# Altium integrated library con-jack.IntLib: 4 symbols
Pins are listed as number, name and electrical type; pins without a type are passive.

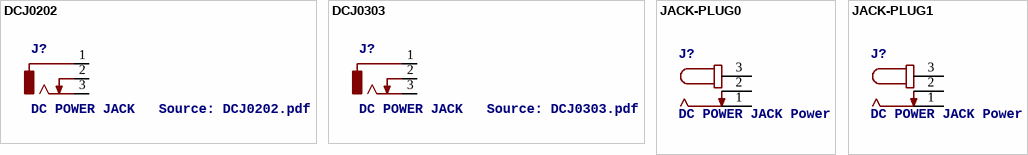
[diagram p0: symbols DCJ0202 to JACK-PLUG1]

## DCJ0202
designator J?, comment DC POWER JACK   Source: DCJ0202.pdf
OC_FARNELL: unknown; OC_NEWARK: unknown
footprint DCJ0202
pins: 1, 2, 3

## DCJ0303
designator J?, comment DC POWER JACK   Source: DCJ0303.pdf
OC_FARNELL: unknown; OC_NEWARK: unknown
footprint DCJ0303
pins: 1, 2, 3

## JACK-PLUG0
designator J?, comment DC POWER JACK Power Jack, DC, Right Angle, Through Hole, Rated 5A at 16VDC, PC Terminals   Distributor: Farnell (www.Farnell.de) Drawing: 84N1161.pdf / 84N1162.pdf Manufacturer: SPC Technology (www.spctechnology.com) Type: SPC4077 / SPC 4078
OC_FARNELL: unknown; OC_NEWARK: unknown
footprint SPC4077
pins: 1, 2, 3

## JACK-PLUG1
designator J?, comment DC POWER JACK Power Jack, DC, Right Angle, Through Hole, Rated 5A at 16VDC, PC Terminals   Distributor: Farnell (www.Farnell.de) Drawing: 84N1161.pdf / 84N1162.pdf Manufacturer: SPC Technology (www.spctechnology.com) Type: SPC4077 / SPC 4078
OC_FARNELL: unknown; OC_NEWARK: unknown
footprint SPC4078
pins: 1, 2, 3